# Altium integrated library Transistors.IntLib: 2 symbols
Pins are listed as number, name and electrical type; pins without a type are passive.

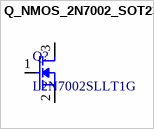
[diagram p0: symbol Q_NMOS_2N7002_SOT23]

## Q_NMOS_2N7002_SOT23
designator Q?, comment L2N7002SLLT1G
-55℃~+150℃ 1 N-channel 10pF 1V 2.8Ω@10V 35pF 380mA 420mW 440pC@4.5V 60V N-Channel SOT-23 MOSFETs ROHS
footprint Q_NMOS_2N7002_SOT23 (-55℃~+150℃ 1 N-channel 10pF 1V 2.8Ω@10V 35pF 380mA 420mW 440pC@4.5V 60V N-Channel SOT-23 MOSFETs ROHS)
pins: 1 G, 2 A, 3 D


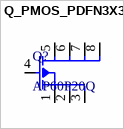
[diagram p1: symbol Q_PMOS_PDFN3X3]

## Q_PMOS_PDFN3X3
designator Q?, comment AP60P20Q
-55℃~+150℃ 1 P-Channel 1V 20V 3.6nF 440pF 55nC@4.5V 572pF 60A 80W 9mΩ@2.5V P-Channel PDFN3x3-8L MOSFETs ROHS
footprint Q_PMOS_PDFN3X3 (-55℃~+150℃ 1 P-Channel 1V 20V 3.6nF 440pF 55nC@4.5V 572pF 60A 80W 9mΩ@2.5V P-Channel PDFN3x3-8L MOSFETs ROHS)
pins: 1 S, 2 S, 3 S, 4 G, 5 D, 6 D, 7 D, 8 D